# EAGLE library part HUZZAH_ESP_PINOUT (library smart_glove_breakout)
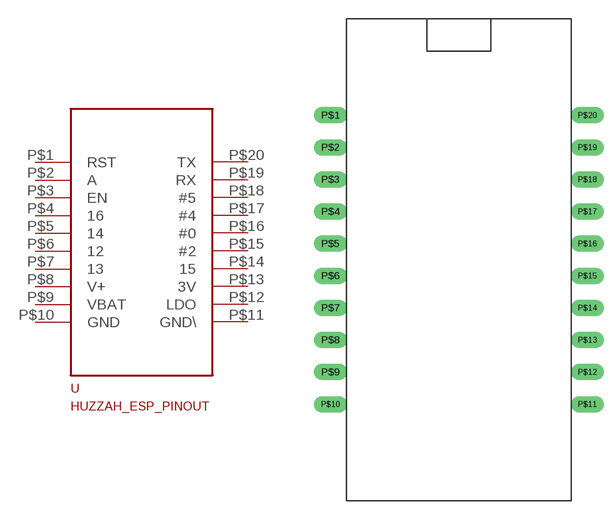
[diagram p2: symbol with the pads of DIP20; footprint DIP20]

Designator prefix -

## HUZZAH_ESP_PINOUT  [DIP20]
P$1  RST
P$2  A
P$3  EN
P$4  16
P$5  14
P$6  12
P$7  13
P$8  V+
P$9  VBAT
P$10  GND
P$11  GND\
P$12  LDO
P$13  3V
P$14  15
P$15  #2
P$16  #0
P$17  #4
P$18  #5
P$19  RX
P$20  TX

## Footprint DIP20 (pad centres in mm)
drill 0.8 long: P$1 0,-7.62; P$2 0,-10.16; P$3 0,-12.7; P$4 0,-15.24; P$5 0,-17.78; P$6 0,-20.32; P$7 0,-22.86; P$8 0,-25.4; P$9 0,-27.94; P$10 0,-30.48; P$11 20.32,-30.48; P$12 20.32,-27.94; P$13 20.32,-25.4; P$14 20.32,-22.86; P$15 20.32,-20.32; P$16 20.32,-17.78; P$17 20.32,-15.24; P$18 20.32,-12.7; P$19 20.32,-10.16; P$20 20.32,-7.62